# Altium footprint library LEDs.PcbLib: 2 footprints
Each footprint in its own frame and in the unit in brackets; x right, y up, seen from the top. Pads: shape width x height; smd on the part's side, far side on the other; paste and mask are expansions set on the pad; w line width, h text height; cw(c..) or ccw(c..) is an arc to the next point about the centre after c.
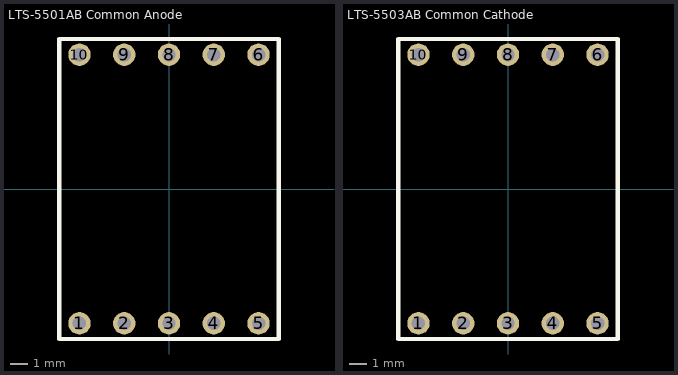
[diagram p0: the footprints below, top view; thin cyan lines are the x and y axes]

## LTS-5501AB Common Anode [mil] "LED 7-SEG .56\" 1DIGIT Common Anode"
pads (10):
  round 50 hole 30: 1(-200,-300) 2(-100,-300) 3(0,-300) 4(100,-300) 5(200,-300) 6(200,300) 7(100,300) 8(0,300) 9(-100,300) 10(-200,300)
Top Overlay:
  lines w10: -245,-335 245,-335 245,335 -245,335 -245,-335
3D body: height 314.96, standoff -196.85, extent -245,-340 243.19,333.23

## LTS-5503AB Common Cathode [mil] "LED 7-SEG .56\" 1DIGIT  Common Cathode"
pads (10):
  round 50 hole 30: 1(-200,-300) 2(-100,-300) 3(0,-300) 4(100,-300) 5(200,-300) 6(200,300) 7(100,300) 8(0,300) 9(-100,300) 10(-200,300)
Top Overlay:
  lines w10: -245,-335 245,-335 245,335 -245,335 -245,-335
3D body: height 314.96, standoff -196.85, extent -245,-340 243.19,333.23